# EAGLE library part LM358 (library atari)
Dual General Purpose, Rail-to-Rail Output Operational Amplifier
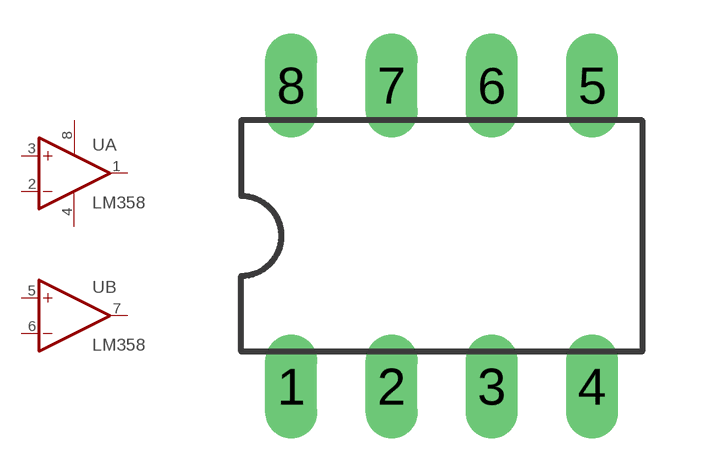
[diagram p18: symbol with the pads of DIL8; footprint DIL8]

Designator prefix -; gates A=LM358 B=LM358 P=V+V-

## LM358  [DIL8]
1  A:OUT  out
2  A:-IN  in
3  A:+IN  in
4  P:V-  pwr
5  B:+IN  in
6  B:-IN  in
7  B:OUT  out
8  P:V+  pwr

## Footprint DIL8 (pad centres in mm)
drill 0.813 long: 1 -3.81,-3.81; 2 -1.27,-3.81; 3 1.27,-3.81; 4 3.81,-3.81; 5 3.81,3.81; 6 1.27,3.81; 7 -1.27,3.81; 8 -3.81,3.81